# EAGLE library part TSM-106-01-L-DH (library KVB-connectors)
Connector Header Surface Mount, Right Angle 12 position 0.100" (2.54mm)
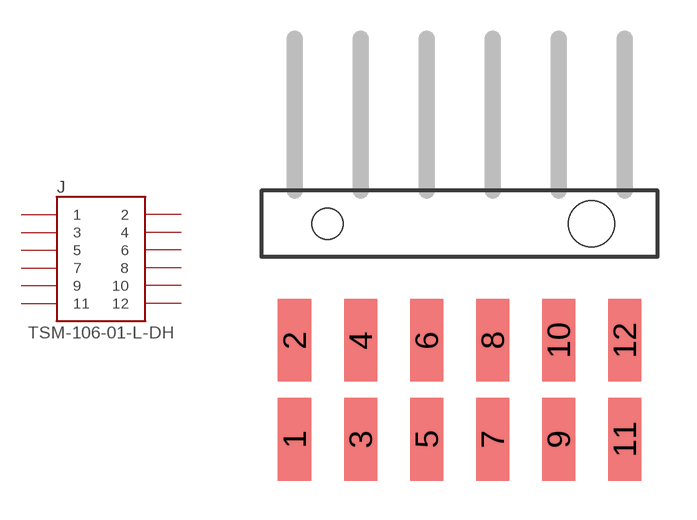
[diagram p34: symbol with the pads of TSM-106-01-L-DH; footprint TSM-106-01-L-DH]

Designator prefix J

## TSM-106-01-L-DH  [TSM-106-01-L-DH]
1  1
2  2
3  3
4  4
5  5
6  6
7  7
8  8
9  9
10  10
11  11
12  12

## Footprint TSM-106-01-L-DH (pad centres in mm)
smd 1.27 x 3.175: 1 -6.35,-9.576; 2 -6.35,-5.766; 3 -3.81,-9.576; 4 -3.81,-5.766; 5 -1.27,-9.576; 6 -1.27,-5.766; 7 1.27,-9.576; 8 1.27,-5.766; 9 3.81,-9.576; 10 3.81,-5.766; 11 6.35,-9.576; 12 6.35,-5.766
hole 1.194 at -5.08,-1.27
hole 1.778 at 5.08,-1.27